# Altium footprint library songshuai.PcbLib: 62 footprints (part 2 of 4)
Each footprint in its own frame and in the unit in brackets; x right, y up, seen from the top. Pads: shape width x height; smd on the part's side, far side on the other; paste and mask are expansions set on the pad; w line width, h text height; cw(c..) or ccw(c..) is an arc to the next point about the centre after c.
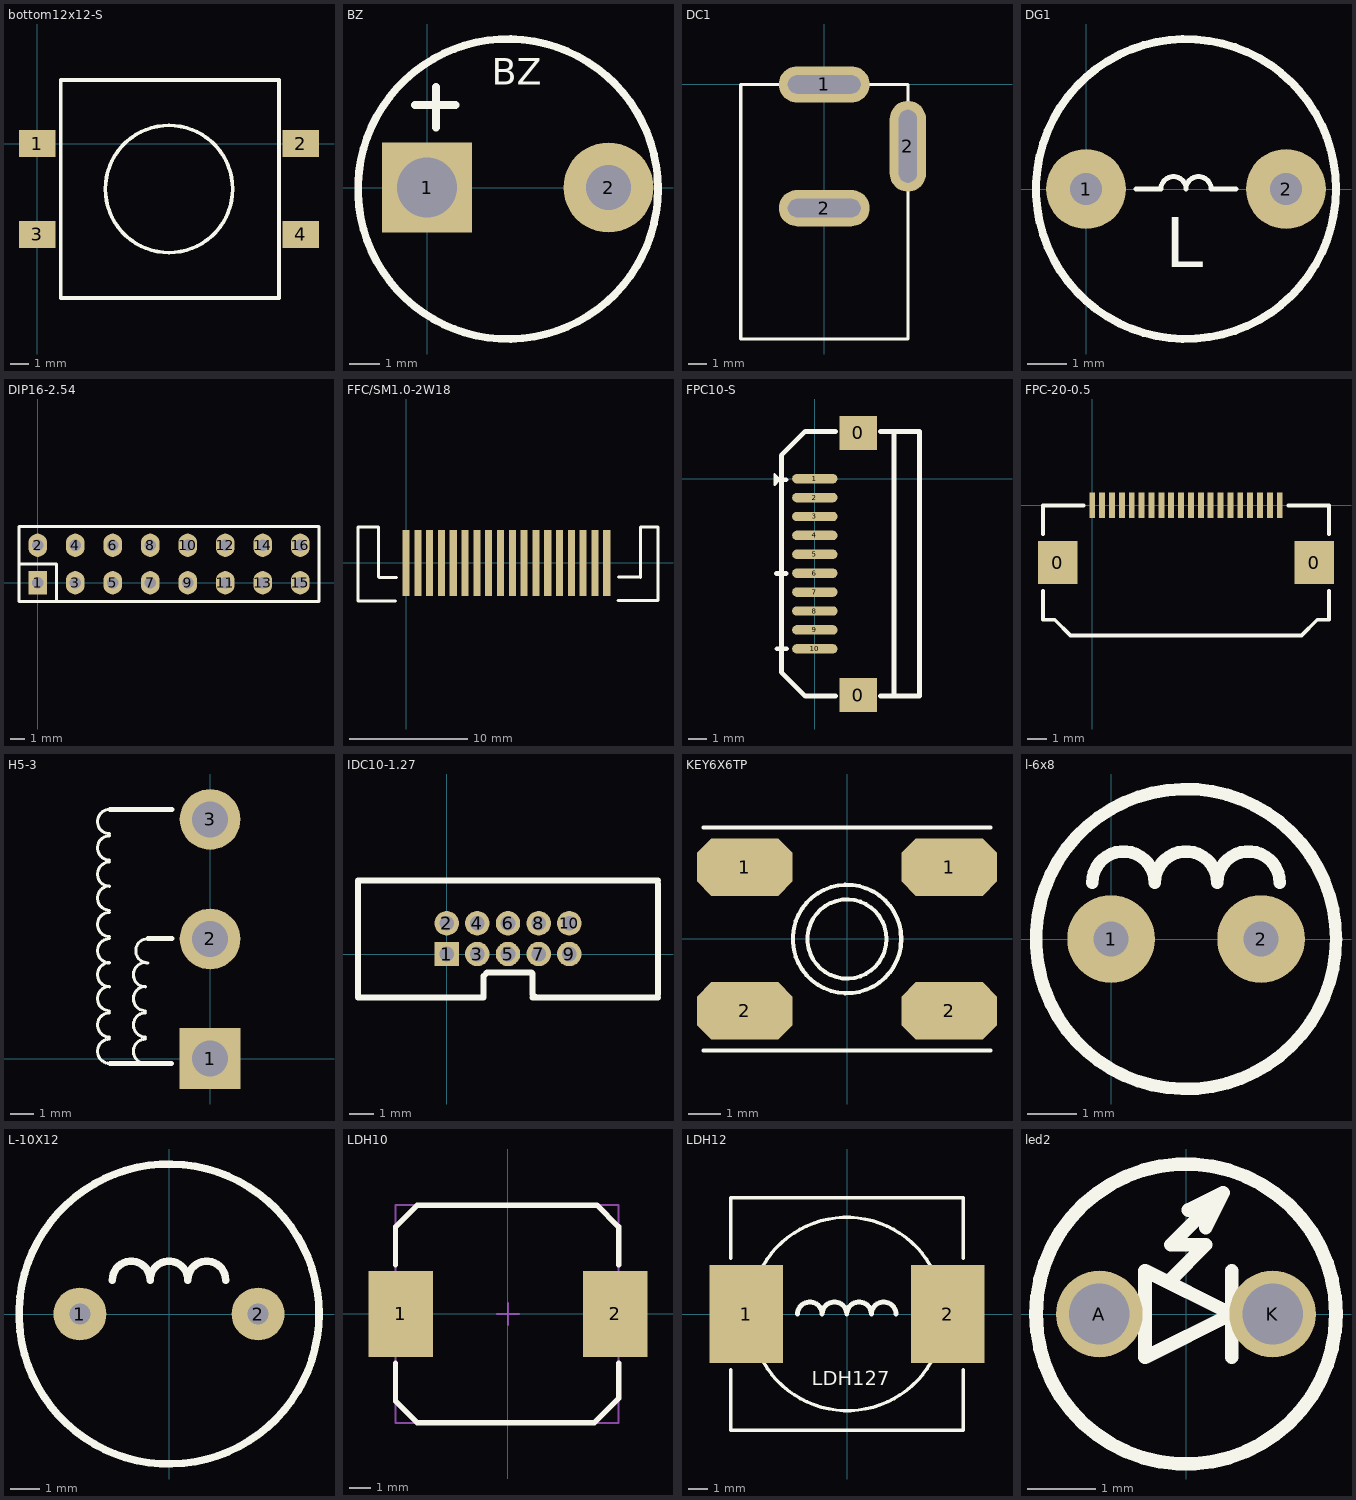
[diagram p1: the footprints below, top view; thin cyan lines are the x and y axes]

## bottom12x12-S [mm]
height 3.6
pads (4):
  rect 2x1.5 smd: 1(0,0) 2(14.5,0) 3(0,-5) 4(14.5,-5)
Top Overlay:
  circle w0.203: c7.25,-2.5 r3.5
  lines w0.203: 1.3,-8.5 1.3,3.5 13.3,3.5 13.3,-8.5 1.3,-8.5

## BZ [mm]
pads (2):
  rect 3x3 hole 2: 1(0,0)
  round 3 hole 1.5: 2(6.05,0)
Top Overlay:
  circle w0.254: c2.7,-0.05 r5
  lines w0.254: -0.4,2.75 0.95,2.75 ; 0.3,2 0.3,3.35
  text "BZ" at 2.159,3.429 h0.89

## DC1 [mm]
height 5.08
pads (3):
  oval 5x2 hole 1 slot 4 at 0 deg: 1(0,0) 2(0,-6.8)
  oval 2x5 hole 1 slot 4 at 90 deg: 2(4.6,-3.4)
Top Overlay:
  lines w0.178: -2.134,0 -4.6,0 -4.6,-14 4.6,-14 4.6,0 2.134,0

## DG1 [mil]
height 64.96
pads (2):
  round 80 hole 32: 1(0,0) 2(200,0)
Top Overlay:
  circle w8: c100,0 r150
  lines w5: 50,0 75,0 cw(c87.5,0) 100,0 cw(c112.5,0) 125,0 150,0
  text "L" at 79,-78 h50

## DIP16-2.54 [mm]
pads (16):
  rect 1.27x1.575 hole 0.8: 1(0,0)
  oval 1.27x1.575 hole 0.8: 2(0,2.54) 3(2.54,0) 4(2.54,2.54) 5(5.08,0) 6(5.08,2.54) 7(7.62,0) 8(7.62,2.54) 9(10.16,0) 10(10.16,2.54) 11(12.7,0) 12(12.7,2.54) 13(15.24,0) 14(15.24,2.54) 15(17.78,0) 16(17.78,2.54)
Top Overlay:
  lines w0.203: -1.27,1.27 1.27,1.27 1.27,-1.27 ; -1.27,-1.27 -1.27,3.81 19.05,3.81 19.05,-1.27 -1.27,-1.27

## FFC/SM1.0-2W18 [mm]
height 3
pads (18):
  rect 0.6x5.588 smd: 1(0,0) 2(1,0) 3(2,0) 4(3,0) 5(4,0) 6(5,0) 7(6,0) 8(7,0) 9(8,0) 10(9,0) 11(10,0) 12(11,0) 13(12,0) 14(13,0) 15(14,0) 16(15,0) 17(16,0) 18(17,0)
Top Overlay:
  lines w0.254: -0.889,-3.226 -4.064,-3.226 -4.064,3.048 -2.337,3.048 -2.337,-1.168 -2.286,-1.219 -0.787,-1.219 ; 17.932,-3.175 21.336,-3.175 21.336,3.048 19.837,3.048 19.837,-1.219 19.812,-1.194 18.009,-1.194

## FPC10-S [mm]
height 5.08
pads (12):
  rect 2x1.8 smd: 0(2.295,-11.447) 0(2.295,2.422)
  oval 2.4x0.5 smd: 1(0,0) 2(0,-1) 3(0,-2) 4(0,-3) 5(0,-4) 6(0,-5) 7(0,-6) 8(0,-7) 9(0,-8) 10(0,-9)
Top Overlay:
  lines w0.127: -2.083,0.076 -2.057,0.076 ; -1.88,-0.076 -2.134,-0.33 -2.134,0.229 -1.829,-0.076
  lines w0.254: -2.025,-5.012 -1.524,-5.012 ; -2.025,-0.059 -1.524,-0.059 ; -2,-9 -1.499,-9 ; 1.103,-11.5 -0.5,-11.5 -1.765,-10.235 -1.765,1.235 -0.5,2.5 1.103,2.5 ; 3.469,-11.5 5.537,-11.5 5.537,2.5 3.469,2.5 ; 4.191,-11.473 4.191,2.475

## FPC-20-0.5 [mm]
pads (22):
  rect 2x2.2 smd: 0(-1.75,-2.9) 0(11.25,-2.9)
  rect 0.3x1.3 smd: 1(0,0) 2(0.5,0) 3(1,0) 4(1.5,0) 5(2,0) 6(2.5,0) 7(3,0) 8(3.5,0) 9(4,0) 10(4.5,0) 11(5,0) 12(5.5,0) 13(6,0) 14(6.5,0) 15(7,0) 16(7.5,0) 17(8,0) 18(8.5,0) 19(9,0) 20(9.5,0)
Top Overlay:
  lines w0.2: -2.5,-4.35 -2.5,-5.8 -1.9,-5.8 -1.1,-6.6 10.6,-6.6 11.4,-5.8 12,-5.8 12,-4.35 ; -2.5,-1.45 -2.5,0 -0.45,0 ; 9.95,0 12,0 12,-1.45

## H5-3 [mm]
height 15.24
pads (3):
  rect 2.54x2.54 hole 1.5: 1(0,0)
  round 2.54 hole 1.5: 2(0,5) 3(0,10)
Top Overlay:
  lines w0.127: -4.2,-0.2 cw(c-4.2,0.308) -4.2,0.816 ; -4.2,0.9 cw(c-4.2,1.408) -4.2,1.916 ; -4.2,2 cw(c-4.2,2.508) -4.2,3.016 ; -4.2,3 cw(c-4.2,3.508) -4.2,4.016 ; -4.2,4 cw(c-4.2,4.508) -4.2,5.016 ; -4.2,5.1 cw(c-4.2,5.608) -4.2,6.116 ; -4.2,6.2 cw(c-4.2,6.708) -4.2,7.216 ; -4.2,7.2 cw(c-4.2,7.708) -4.2,8.216 ; -4.2,8.3 cw(c-4.2,8.808) -4.2,9.316 ; -4.2,9.4 cw(c-4.2,9.908) -4.2,10.416 ; -2.7,-0.2 cw(c-2.7,0.308) -2.7,0.816 ; -2.7,0.9 cw(c-2.7,1.408) -2.7,1.916 ; -2.7,2 cw(c-2.7,2.508) -2.7,3.016 ; -2.7,3 cw(c-2.7,3.508) -2.7,4.016 ; -2.6,4 cw(c-2.6,4.508) -2.6,5.016
  lines w0.2: -4.2,-0.2 -1.6,-0.2 ; -4.2,10.416 -1.584,10.416 ; -2.6,5.016 -1.584,5.016

## IDC10-1.27 [mil]
height 300
pads (10):
  rect 40x40 hole 24: 1(0,0)
  round 40 hole 24: 2(0,50) 3(50,0) 4(50,50) 5(100,0) 6(100,50) 7(150,0) 8(150,50) 9(200,0) 10(200,50)
Top Overlay:
  lines w10: 140,-71 345,-71 ; 148,-71 145,-71 140,-66 ; 345,-66 345,115 ; 345,120 -145,120 -145,-71 60,-71 60,-36 66,-30 138,-30 ; 138,-30 140,-32 ; 138,-30 140,-32 ; 140,-66 140,-32 ; 140,-66 140,-32 ; 140,-66 140,-32

## KEY6X6TP [mm]
pads (4):
  oct 3x1.8 smd: 1(-3.2,2.25) 1(3.2,2.25) 2(-3.2,-2.25) 2(3.2,-2.25)
Top Overlay:
  circle w0.127: c0,0 r1.239
  circle w0.127: c0,0 r1.7
  lines w0.127: -4.5,-3.5 4.5,-3.5 ; -4.5,3.5 4.5,3.5

## l-6x8 [mil]
pads (2):
  round 70 hole 28: 1(0,0) 2(120,0)
Top Overlay:
  circle w10: c60,0 r120
  lines w10: -15,45 cw(c10,45) 35,45 cw(c60,45) 85,45 cw(c110,45) 135,45

## L-10X12 [mil]
pads (2):
  round 70 hole 28: 1(-118.11,0) 2(118.11,0)
Top Overlay:
  circle w10: c0,0 r198.74
  lines w10: -75,45 cw(c-50,45) -25,45 cw(c0,45) 25,45 cw(c50,45) 75,45

## LDH10 [mm]
height 3
pads (2):
  rect 3x4 smd: 1(-5,0) 2(5,0)
Top Overlay:
  lines w0.254: -5.25,-2.3 -5.25,-4.064 -4.234,-5.08 4.021,-5.08 5.164,-3.937 5.164,-2.3 ; -5.25,2.3 -5.25,4.064 -4.234,5.08 4.148,5.08 5.164,4.064 5.164,2.3
Mechanical 13:
  lines w0.1: -5.25,-5.08 5.164,-5.08 5.164,5.08 -5.25,5.08 -5.25,-5.08
Mechanical 15:
  lines w0.1: -0.5,0 0.5,0 ; 0,-0.5 0,0.5 ; -5.25,-5.08 5.164,-5.08 5.164,5.08 -5.25,5.08 -5.25,-5.08
3D body: height 3, standoff 0, extent 0,0 0,0
3D body: height 3, standoff 0, extent -5.25,-5.08 5.164,5.08

## LDH12 [mm]
height 5.08
pads (2):
  rect 3.81x5.08 smd: 1(-5.2,0) 2(5.2,0)
Top Overlay:
  lines w0.178: -6,-2.875 -6,-6 6,-6 6,-2.875 ; -6,2.875 -6,6 6,6 6,2.875 ; -4.343,2.487 cw(c-0.013,-0.013) 4.317,2.487 ; -4.317,-2.487 ccw(c0.013,0.013) 4.343,-2.487
  lines w0.254: -2.553,-0.013 cw(c-1.918,-0.013) -1.283,-0.013 cw(c-0.648,-0.013) -0.013,-0.013 cw(c0.622,-0.013) 1.257,-0.013 cw(c1.892,-0.013) 2.527,-0.013
  text "LDH127" at -1.825,-3.925 h1.27

## led2 [mil]
pads (2):
  round 50 hole 35: A(-50,0) K(50,0)
Top Overlay:
  circle w7.87: c0,0 r86.61
  lines w8: -8.62,20 11.38,40 -8.62,40 21.38,70 ; 1.38,60 21.38,70 ; 11.38,50 21.38,70 ; 26.38,-25 26.38,25 ; -23.62,-25 -23.62,0 -23.62,25 26.38,0 -23.62,-25